# Altium schematic symbol library 328P.SchLib: 1 symbol
Pins are listed as number, name and electrical type; pins without a type are passive.

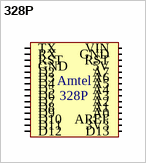
[diagram p0: symbol 328P]

## 328P
designator *  (value not drawn)
footprint 328
pins: 1 TX, 2 RX, 3 RST, 4 GND, 5 D2, 6 D3, 7 D4, 8 D5, 9 D6, 10 D7, 11 D8, 12 D9, 13 D10, 14 D11, 15 D12, 16 D13, 17 3V3, 18 AREF, 19 A0, 20 A1, 21 A2, 22 A3, 23 A4, 24 A5, 25 A6, 26 A7, 27 5V, 28 RST, 29 GND, 30 VIN
text: Amtel